# EAGLE library part 74*148? (library ic-logic)
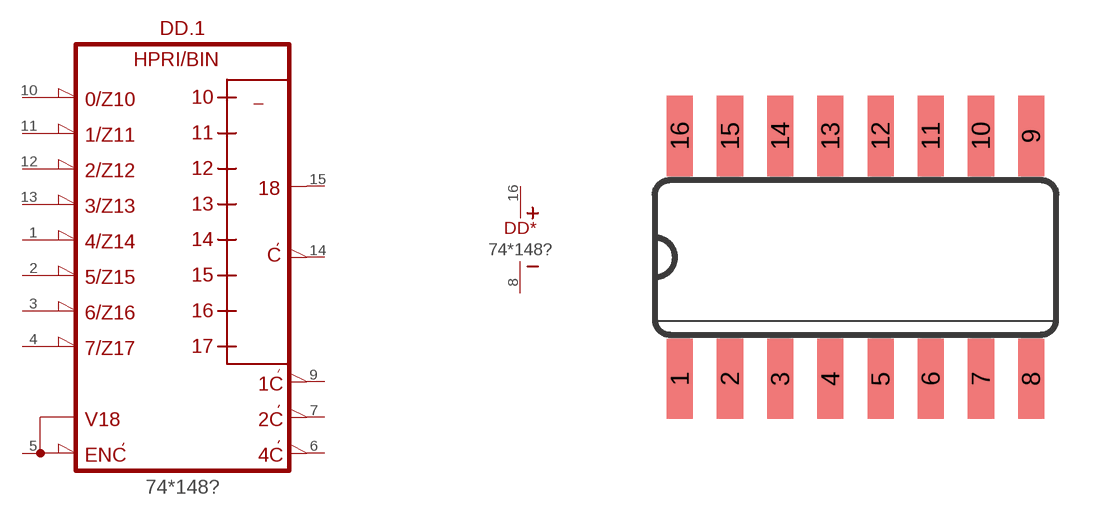
[diagram p5: symbol with the pads of SO-16; footprint SO-16]

Designator prefix DD; gates .1=148 *=SUPPLY

## 74148D, 74HC148D  [SO-16]
1  .1:4  in
2  .1:5  in
3  .1:6  in
4  .1:7  in
5  .1:EI  in
6  .1:A2  out
7  .1:A1  out
8  *:V-  pwr
9  .1:A0  out
10  .1:0  in
11  .1:1  in
12  .1:2  in
13  .1:3  in
14  .1:GS  out
15  .1:EO  out
16  *:V+  pwr

## Footprint SO-16 (pad centres in mm)
Small Outline package 150 mil
smd 0.66 x 2.032: 1 -4.445,-3.073; 2 -3.175,-3.073; 3 -1.905,-3.073; 4 -0.635,-3.073; 5 0.635,-3.073; 6 1.905,-3.073; 7 3.175,-3.073; 8 4.445,-3.073; 9 4.445,3.073; 10 3.175,3.073; 11 1.905,3.073; 12 0.635,3.073; 13 -0.635,3.073; 14 -1.905,3.073; 15 -3.175,3.073; 16 -4.445,3.073